# Altium integrated library NSC Voltage Reference.IntLib: 272 symbols (part 6 of 6)
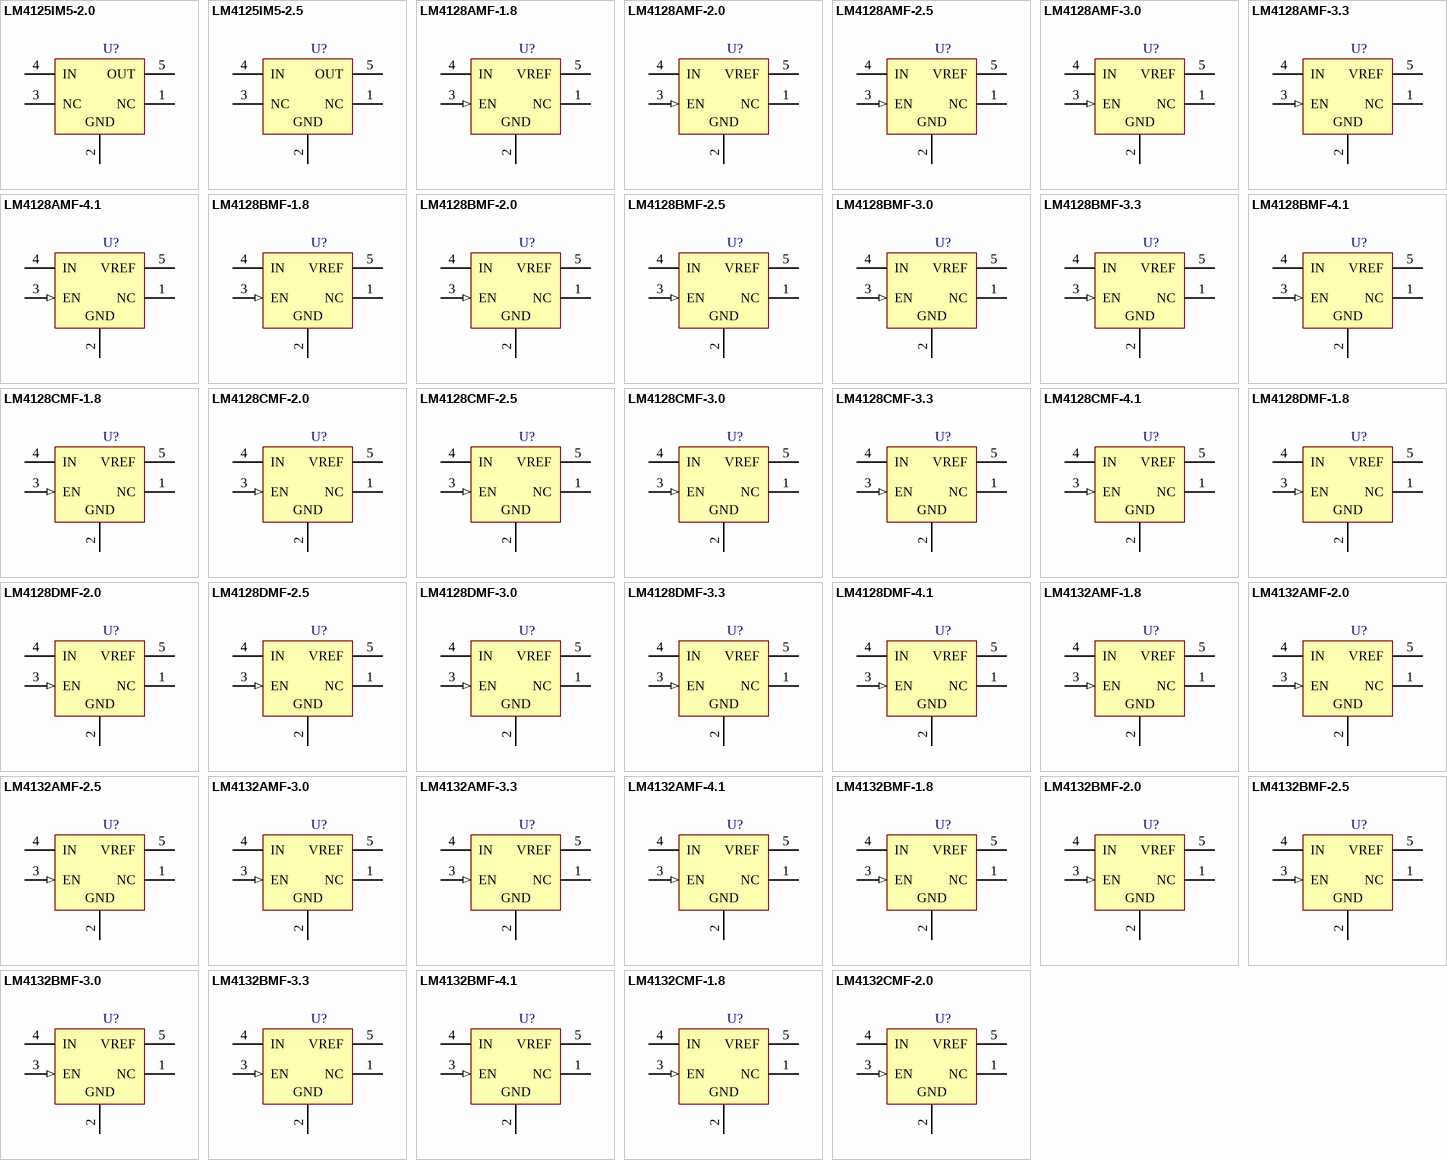
[diagram p11: symbols LM4125IM5-2.0 to LM4132CMF-2.0]

## LM4132AMF-4.1
designator U?
SOT-23 Precision Low Dropout Voltage Reference; PartNumber: LM4132AMF-4.1; Manufacturer: National Semiconductor; CompType: Voltage Reference IC; PackageTopMarking: R4FA*XTT; Published: 4-Dec-2008; DatasheetVersion: Aug-2006; PackageVersion: revD, Aug-2008; PackageReference: MF05A; Publisher: Altium Limited; PackageDescription: Molded SOT-23, .115 x .063 x .040 in Body, 5 Lead, .0375 in Pitch; RoHS: Y; PinCount: 5; DigiKeyPartNumber: LM4132AMF-4.1CT-ND; Code_IPC: SOT23-5; ComponentLink1Description: LM4132 Datasheet; ComponentLink1URL: http://www.national.com/ds/LM/LM4132.pdf; ComponentLink2Description: LM4132 Web Page; ComponentLink2URL: http://www.national.com/pf/LM/LM4132.html; ComponentLink3Description: MF05A Package Page; ComponentLink3URL: http://www.national.com/packaging/folders/mf05a.html
footprint MF05A_N (SOT23, 5-Leads, Body 2.9x1.6mm, Pitch 0.95mm, Lead Span 2.8mm, IPC Medium Density)
footprint MF05A_L (SOT23, 5-Leads, Body 2.9x1.6mm, Pitch 0.95mm, Lead Span 2.8mm, IPC High Density)
footprint MF05A_M (SOT23, 5-Leads, Body 2.9x1.6mm, Pitch 0.95mm, Lead Span 2.8mm, IPC Low Density)
pins: 1 NC, 2 GND (power), 3 EN (in), 4 IN (power), 5 VREF (power)

## LM4132BMF-1.8
designator U?
SOT-23 Precision Low Dropout Voltage Reference; PartNumber: LM4132BMF-1.8; Manufacturer: National Semiconductor; CompType: Voltage Reference IC; PackageTopMarking: R4AB*XTT; Published: 4-Dec-2008; DatasheetVersion: Aug-2006; PackageVersion: revD, Aug-2008; PackageReference: MF05A; Publisher: Altium Limited; PackageDescription: Molded SOT-23, .115 x .063 x .040 in Body, 5 Lead, .0375 in Pitch; RoHS: Y; PinCount: 5; DigiKeyPartNumber: LM4132BMF-1.8CT-ND; Code_IPC: SOT23-5; ComponentLink1Description: LM4132 Datasheet; ComponentLink1URL: http://www.national.com/ds/LM/LM4132.pdf; ComponentLink2Description: LM4132 Web Page; ComponentLink2URL: http://www.national.com/pf/LM/LM4132.html; ComponentLink3Description: MF05A Package Page; ComponentLink3URL: http://www.national.com/packaging/folders/mf05a.html
footprint MF05A_N (SOT23, 5-Leads, Body 2.9x1.6mm, Pitch 0.95mm, Lead Span 2.8mm, IPC Medium Density)
footprint MF05A_L (SOT23, 5-Leads, Body 2.9x1.6mm, Pitch 0.95mm, Lead Span 2.8mm, IPC High Density)
footprint MF05A_M (SOT23, 5-Leads, Body 2.9x1.6mm, Pitch 0.95mm, Lead Span 2.8mm, IPC Low Density)
pins: 1 NC, 2 GND (power), 3 EN (in), 4 IN (power), 5 VREF (power)

## LM4132BMF-2.0
designator U?
SOT-23 Precision Low Dropout Voltage Reference; PartNumber: LM4132BMF-2.0; Manufacturer: National Semiconductor; CompType: Voltage Reference IC; PackageTopMarking: R4BB*XTT; Published: 4-Dec-2008; DatasheetVersion: Aug-2006; PackageVersion: revD, Aug-2008; PackageReference: MF05A; Publisher: Altium Limited; PackageDescription: Molded SOT-23, .115 x .063 x .040 in Body, 5 Lead, .0375 in Pitch; RoHS: Y; PinCount: 5; DigiKeyPartNumber: LM4132BMF-2.0CT-ND; Code_IPC: SOT23-5; ComponentLink1Description: LM4132 Datasheet; ComponentLink1URL: http://www.national.com/ds/LM/LM4132.pdf; ComponentLink2Description: LM4132 Web Page; ComponentLink2URL: http://www.national.com/pf/LM/LM4132.html; ComponentLink3Description: MF05A Package Page; ComponentLink3URL: http://www.national.com/packaging/folders/mf05a.html
footprint MF05A_N (SOT23, 5-Leads, Body 2.9x1.6mm, Pitch 0.95mm, Lead Span 2.8mm, IPC Medium Density)
footprint MF05A_L (SOT23, 5-Leads, Body 2.9x1.6mm, Pitch 0.95mm, Lead Span 2.8mm, IPC High Density)
footprint MF05A_M (SOT23, 5-Leads, Body 2.9x1.6mm, Pitch 0.95mm, Lead Span 2.8mm, IPC Low Density)
pins: 1 NC, 2 GND (power), 3 EN (in), 4 IN (power), 5 VREF (power)

## LM4132BMF-2.5
designator U?
SOT-23 Precision Low Dropout Voltage Reference; PartNumber: LM4132BMF-2.5; Manufacturer: National Semiconductor; CompType: Voltage Reference IC; PackageTopMarking: R4CB*XTT; Published: 4-Dec-2008; DatasheetVersion: Aug-2006; PackageVersion: revD, Aug-2008; PackageReference: MF05A; Publisher: Altium Limited; PackageDescription: Molded SOT-23, .115 x .063 x .040 in Body, 5 Lead, .0375 in Pitch; RoHS: Y; PinCount: 5; DigiKeyPartNumber: LM4132BMF-2.5CT-ND; Code_IPC: SOT23-5; ComponentLink1Description: LM4132 Datasheet; ComponentLink1URL: http://www.national.com/ds/LM/LM4132.pdf; ComponentLink2Description: LM4132 Web Page; ComponentLink2URL: http://www.national.com/pf/LM/LM4132.html; ComponentLink3Description: MF05A Package Page; ComponentLink3URL: http://www.national.com/packaging/folders/mf05a.html
footprint MF05A_N (SOT23, 5-Leads, Body 2.9x1.6mm, Pitch 0.95mm, Lead Span 2.8mm, IPC Medium Density)
footprint MF05A_L (SOT23, 5-Leads, Body 2.9x1.6mm, Pitch 0.95mm, Lead Span 2.8mm, IPC High Density)
footprint MF05A_M (SOT23, 5-Leads, Body 2.9x1.6mm, Pitch 0.95mm, Lead Span 2.8mm, IPC Low Density)
pins: 1 NC, 2 GND (power), 3 EN (in), 4 IN (power), 5 VREF (power)

## LM4132BMF-3.0
designator U?
SOT-23 Precision Low Dropout Voltage Reference; PartNumber: LM4132BMF-3.0; Manufacturer: National Semiconductor; CompType: Voltage Reference IC; PackageTopMarking: R4DB*XTT; Published: 4-Dec-2008; DatasheetVersion: Aug-2006; PackageVersion: revD, Aug-2008; PackageReference: MF05A; Publisher: Altium Limited; PackageDescription: Molded SOT-23, .115 x .063 x .040 in Body, 5 Lead, .0375 in Pitch; RoHS: Y; PinCount: 5; DigiKeyPartNumber: LM4132BMF-3.0CT-ND; Code_IPC: SOT23-5; ComponentLink1Description: LM4132 Datasheet; ComponentLink1URL: http://www.national.com/ds/LM/LM4132.pdf; ComponentLink2Description: LM4132 Web Page; ComponentLink2URL: http://www.national.com/pf/LM/LM4132.html; ComponentLink3Description: MF05A Package Page; ComponentLink3URL: http://www.national.com/packaging/folders/mf05a.html
footprint MF05A_N (SOT23, 5-Leads, Body 2.9x1.6mm, Pitch 0.95mm, Lead Span 2.8mm, IPC Medium Density)
footprint MF05A_L (SOT23, 5-Leads, Body 2.9x1.6mm, Pitch 0.95mm, Lead Span 2.8mm, IPC High Density)
footprint MF05A_M (SOT23, 5-Leads, Body 2.9x1.6mm, Pitch 0.95mm, Lead Span 2.8mm, IPC Low Density)
pins: 1 NC, 2 GND (power), 3 EN (in), 4 IN (power), 5 VREF (power)

## LM4132BMF-3.3
designator U?
SOT-23 Precision Low Dropout Voltage Reference; PartNumber: LM4132BMF-3.3; Manufacturer: National Semiconductor; CompType: Voltage Reference IC; PackageTopMarking: R4EB*XTT; Published: 4-Dec-2008; DatasheetVersion: Aug-2006; PackageVersion: revD, Aug-2008; PackageReference: MF05A; Publisher: Altium Limited; PackageDescription: Molded SOT-23, .115 x .063 x .040 in Body, 5 Lead, .0375 in Pitch; RoHS: Y; PinCount: 5; DigiKeyPartNumber: LM4132BMF-3.3CT-ND; Code_IPC: SOT23-5; ComponentLink1Description: LM4132 Datasheet; ComponentLink1URL: http://www.national.com/ds/LM/LM4132.pdf; ComponentLink2Description: LM4132 Web Page; ComponentLink2URL: http://www.national.com/pf/LM/LM4132.html; ComponentLink3Description: MF05A Package Page; ComponentLink3URL: http://www.national.com/packaging/folders/mf05a.html
footprint MF05A_N (SOT23, 5-Leads, Body 2.9x1.6mm, Pitch 0.95mm, Lead Span 2.8mm, IPC Medium Density)
footprint MF05A_L (SOT23, 5-Leads, Body 2.9x1.6mm, Pitch 0.95mm, Lead Span 2.8mm, IPC High Density)
footprint MF05A_M (SOT23, 5-Leads, Body 2.9x1.6mm, Pitch 0.95mm, Lead Span 2.8mm, IPC Low Density)
pins: 1 NC, 2 GND (power), 3 EN (in), 4 IN (power), 5 VREF (power)

## LM4132BMF-4.1
designator U?
SOT-23 Precision Low Dropout Voltage Reference; PartNumber: LM4132BMF-4.1; Manufacturer: National Semiconductor; CompType: Voltage Reference IC; PackageTopMarking: R4FB*XTT; Published: 4-Dec-2008; DatasheetVersion: Aug-2006; PackageVersion: revD, Aug-2008; PackageReference: MF05A; Publisher: Altium Limited; PackageDescription: Molded SOT-23, .115 x .063 x .040 in Body, 5 Lead, .0375 in Pitch; RoHS: Y; PinCount: 5; DigiKeyPartNumber: LM4132BMF-4.1CT-ND; Code_IPC: SOT23-5; ComponentLink1Description: LM4132 Datasheet; ComponentLink1URL: http://www.national.com/ds/LM/LM4132.pdf; ComponentLink2Description: LM4132 Web Page; ComponentLink2URL: http://www.national.com/pf/LM/LM4132.html; ComponentLink3Description: MF05A Package Page; ComponentLink3URL: http://www.national.com/packaging/folders/mf05a.html
footprint MF05A_N (SOT23, 5-Leads, Body 2.9x1.6mm, Pitch 0.95mm, Lead Span 2.8mm, IPC Medium Density)
footprint MF05A_L (SOT23, 5-Leads, Body 2.9x1.6mm, Pitch 0.95mm, Lead Span 2.8mm, IPC High Density)
footprint MF05A_M (SOT23, 5-Leads, Body 2.9x1.6mm, Pitch 0.95mm, Lead Span 2.8mm, IPC Low Density)
pins: 1 NC, 2 GND (power), 3 EN (in), 4 IN (power), 5 VREF (power)

## LM4132CMF-1.8
designator U?
SOT-23 Precision Low Dropout Voltage Reference; PartNumber: LM4132CMF-1.8; Manufacturer: National Semiconductor; CompType: Voltage Reference IC; PackageTopMarking: R4AC*XTT; Published: 4-Dec-2008; DatasheetVersion: Aug-2006; PackageVersion: revD, Aug-2008; PackageReference: MF05A; Publisher: Altium Limited; PackageDescription: Molded SOT-23, .115 x .063 x .040 in Body, 5 Lead, .0375 in Pitch; RoHS: Y; PinCount: 5; DigiKeyPartNumber: LM4132CMF-1.8CT-ND; Code_IPC: SOT23-5; ComponentLink1Description: LM4132 Datasheet; ComponentLink1URL: http://www.national.com/ds/LM/LM4132.pdf; ComponentLink2Description: LM4132 Web Page; ComponentLink2URL: http://www.national.com/pf/LM/LM4132.html; ComponentLink3Description: MF05A Package Page; ComponentLink3URL: http://www.national.com/packaging/folders/mf05a.html
footprint MF05A_N (SOT23, 5-Leads, Body 2.9x1.6mm, Pitch 0.95mm, Lead Span 2.8mm, IPC Medium Density)
footprint MF05A_L (SOT23, 5-Leads, Body 2.9x1.6mm, Pitch 0.95mm, Lead Span 2.8mm, IPC High Density)
footprint MF05A_M (SOT23, 5-Leads, Body 2.9x1.6mm, Pitch 0.95mm, Lead Span 2.8mm, IPC Low Density)
pins: 1 NC, 2 GND (power), 3 EN (in), 4 IN (power), 5 VREF (power)

## LM4132CMF-2.0
designator U?
SOT-23 Precision Low Dropout Voltage Reference; PartNumber: LM4132CMF-2.0; Manufacturer: National Semiconductor; CompType: Voltage Reference IC; PackageTopMarking: R4BC*XTT; Published: 4-Dec-2008; DatasheetVersion: Aug-2006; PackageVersion: revD, Aug-2008; PackageReference: MF05A; Publisher: Altium Limited; PackageDescription: Molded SOT-23, .115 x .063 x .040 in Body, 5 Lead, .0375 in Pitch; RoHS: Y; PinCount: 5; DigiKeyPartNumber: LM4132CMF-2.0CT-ND; Code_IPC: SOT23-5; ComponentLink1Description: LM4132 Datasheet; ComponentLink1URL: http://www.national.com/ds/LM/LM4132.pdf; ComponentLink2Description: LM4132 Web Page; ComponentLink2URL: http://www.national.com/pf/LM/LM4132.html; ComponentLink3Description: MF05A Package Page; ComponentLink3URL: http://www.national.com/packaging/folders/mf05a.html
footprint MF05A_N (SOT23, 5-Leads, Body 2.9x1.6mm, Pitch 0.95mm, Lead Span 2.8mm, IPC Medium Density)
footprint MF05A_L (SOT23, 5-Leads, Body 2.9x1.6mm, Pitch 0.95mm, Lead Span 2.8mm, IPC High Density)
footprint MF05A_M (SOT23, 5-Leads, Body 2.9x1.6mm, Pitch 0.95mm, Lead Span 2.8mm, IPC Low Density)
pins: 1 NC, 2 GND (power), 3 EN (in), 4 IN (power), 5 VREF (power)

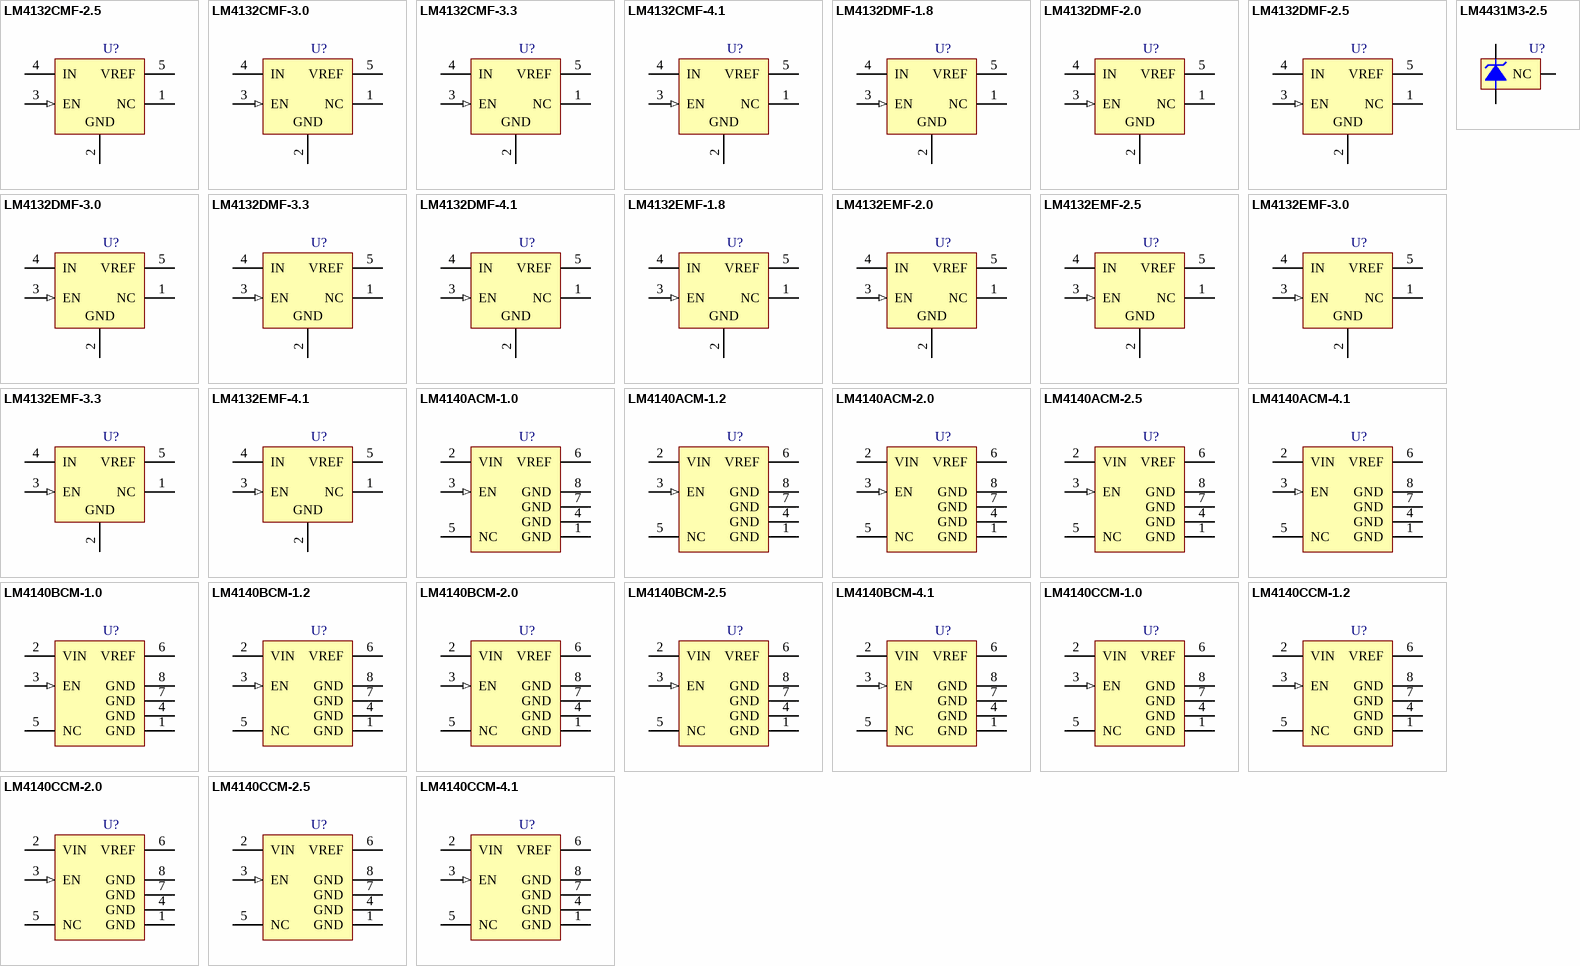
[diagram p6: symbols LM4132CMF-2.5 to LM4431M3-2.5]

## LM4132CMF-2.5
designator U?
SOT-23 Precision Low Dropout Voltage Reference; PartNumber: LM4132CMF-2.5; Manufacturer: National Semiconductor; CompType: Voltage Reference IC; PackageTopMarking: R4CC*XTT; Published: 4-Dec-2008; DatasheetVersion: Aug-2006; PackageVersion: revD, Aug-2008; PackageReference: MF05A; Publisher: Altium Limited; PackageDescription: Molded SOT-23, .115 x .063 x .040 in Body, 5 Lead, .0375 in Pitch; RoHS: Y; PinCount: 5; DigiKeyPartNumber: LM4132CMF-2.5CT-ND; Code_IPC: SOT23-5; ComponentLink1Description: LM4132 Datasheet; ComponentLink1URL: http://www.national.com/ds/LM/LM4132.pdf; ComponentLink2Description: LM4132 Web Page; ComponentLink2URL: http://www.national.com/pf/LM/LM4132.html; ComponentLink3Description: MF05A Package Page; ComponentLink3URL: http://www.national.com/packaging/folders/mf05a.html
footprint MF05A_N (SOT23, 5-Leads, Body 2.9x1.6mm, Pitch 0.95mm, Lead Span 2.8mm, IPC Medium Density)
footprint MF05A_L (SOT23, 5-Leads, Body 2.9x1.6mm, Pitch 0.95mm, Lead Span 2.8mm, IPC High Density)
footprint MF05A_M (SOT23, 5-Leads, Body 2.9x1.6mm, Pitch 0.95mm, Lead Span 2.8mm, IPC Low Density)
pins: 1 NC, 2 GND (power), 3 EN (in), 4 IN (power), 5 VREF (power)

## LM4132CMF-3.0
designator U?
SOT-23 Precision Low Dropout Voltage Reference; PartNumber: LM4132CMF-3.0; Manufacturer: National Semiconductor; CompType: Voltage Reference IC; PackageTopMarking: R4DC*XTT; Published: 4-Dec-2008; DatasheetVersion: Aug-2006; PackageVersion: revD, Aug-2008; PackageReference: MF05A; Publisher: Altium Limited; PackageDescription: Molded SOT-23, .115 x .063 x .040 in Body, 5 Lead, .0375 in Pitch; RoHS: Y; PinCount: 5; DigiKeyPartNumber: LM4132CMF-3.0CT-ND; Code_IPC: SOT23-5; ComponentLink1Description: LM4132 Datasheet; ComponentLink1URL: http://www.national.com/ds/LM/LM4132.pdf; ComponentLink2Description: LM4132 Web Page; ComponentLink2URL: http://www.national.com/pf/LM/LM4132.html; ComponentLink3Description: MF05A Package Page; ComponentLink3URL: http://www.national.com/packaging/folders/mf05a.html
footprint MF05A_N (SOT23, 5-Leads, Body 2.9x1.6mm, Pitch 0.95mm, Lead Span 2.8mm, IPC Medium Density)
footprint MF05A_L (SOT23, 5-Leads, Body 2.9x1.6mm, Pitch 0.95mm, Lead Span 2.8mm, IPC High Density)
footprint MF05A_M (SOT23, 5-Leads, Body 2.9x1.6mm, Pitch 0.95mm, Lead Span 2.8mm, IPC Low Density)
pins: 1 NC, 2 GND (power), 3 EN (in), 4 IN (power), 5 VREF (power)

## LM4132CMF-3.3
designator U?
SOT-23 Precision Low Dropout Voltage Reference; PartNumber: LM4132CMF-3.3; Manufacturer: National Semiconductor; CompType: Voltage Reference IC; PackageTopMarking: R4EC*XTT; Published: 4-Dec-2008; DatasheetVersion: Aug-2006; PackageVersion: revD, Aug-2008; PackageReference: MF05A; Publisher: Altium Limited; PackageDescription: Molded SOT-23, .115 x .063 x .040 in Body, 5 Lead, .0375 in Pitch; RoHS: Y; PinCount: 5; DigiKeyPartNumber: LM4132CMF-3.3CT-ND; Code_IPC: SOT23-5; ComponentLink1Description: LM4132 Datasheet; ComponentLink1URL: http://www.national.com/ds/LM/LM4132.pdf; ComponentLink2Description: LM4132 Web Page; ComponentLink2URL: http://www.national.com/pf/LM/LM4132.html; ComponentLink3Description: MF05A Package Page; ComponentLink3URL: http://www.national.com/packaging/folders/mf05a.html
footprint MF05A_N (SOT23, 5-Leads, Body 2.9x1.6mm, Pitch 0.95mm, Lead Span 2.8mm, IPC Medium Density)
footprint MF05A_L (SOT23, 5-Leads, Body 2.9x1.6mm, Pitch 0.95mm, Lead Span 2.8mm, IPC High Density)
footprint MF05A_M (SOT23, 5-Leads, Body 2.9x1.6mm, Pitch 0.95mm, Lead Span 2.8mm, IPC Low Density)
pins: 1 NC, 2 GND (power), 3 EN (in), 4 IN (power), 5 VREF (power)

## LM4132CMF-4.1
designator U?
SOT-23 Precision Low Dropout Voltage Reference; PartNumber: LM4132CMF-4.1; Manufacturer: National Semiconductor; CompType: Voltage Reference IC; PackageTopMarking: R4FC*XTT; Published: 4-Dec-2008; DatasheetVersion: Aug-2006; PackageVersion: revD, Aug-2008; PackageReference: MF05A; Publisher: Altium Limited; PackageDescription: Molded SOT-23, .115 x .063 x .040 in Body, 5 Lead, .0375 in Pitch; RoHS: O; PinCount: 5; DigiKeyPartNumber: LM4132CMF-4.1CT-ND; Code_IPC: SOT23-5; ComponentLink1Description: LM4132 Datasheet; ComponentLink1URL: http://www.national.com/ds/LM/LM4132.pdf; ComponentLink2Description: LM4132 Web Page; ComponentLink2URL: http://www.national.com/pf/LM/LM4132.html; ComponentLink3Description: MF05A Package Page; ComponentLink3URL: http://www.national.com/packaging/folders/mf05a.html
footprint MF05A_N (SOT23, 5-Leads, Body 2.9x1.6mm, Pitch 0.95mm, Lead Span 2.8mm, IPC Medium Density)
footprint MF05A_L (SOT23, 5-Leads, Body 2.9x1.6mm, Pitch 0.95mm, Lead Span 2.8mm, IPC High Density)
footprint MF05A_M (SOT23, 5-Leads, Body 2.9x1.6mm, Pitch 0.95mm, Lead Span 2.8mm, IPC Low Density)
pins: 1 NC, 2 GND (power), 3 EN (in), 4 IN (power), 5 VREF (power)

## LM4132DMF-1.8
designator U?
SOT-23 Precision Low Dropout Voltage Reference; PartNumber: LM4132DMF-1.8; Manufacturer: National Semiconductor; CompType: Voltage Reference IC; PackageTopMarking: R4AD*XTT; Published: 4-Dec-2008; DatasheetVersion: Aug-2006; PackageVersion: revD, Aug-2008; PackageReference: MF05A; Publisher: Altium Limited; PackageDescription: Molded SOT-23, .115 x .063 x .040 in Body, 5 Lead, .0375 in Pitch; RoHS: Y; PinCount: 5; DigiKeyPartNumber: LM4132DMF-1.8CT-ND; Code_IPC: SOT23-5; ComponentLink1Description: LM4132 Datasheet; ComponentLink1URL: http://www.national.com/ds/LM/LM4132.pdf; ComponentLink2Description: LM4132 Web Page; ComponentLink2URL: http://www.national.com/pf/LM/LM4132.html; ComponentLink3Description: MF05A Package Page; ComponentLink3URL: http://www.national.com/packaging/folders/mf05a.html
footprint MF05A_N (SOT23, 5-Leads, Body 2.9x1.6mm, Pitch 0.95mm, Lead Span 2.8mm, IPC Medium Density)
footprint MF05A_L (SOT23, 5-Leads, Body 2.9x1.6mm, Pitch 0.95mm, Lead Span 2.8mm, IPC High Density)
footprint MF05A_M (SOT23, 5-Leads, Body 2.9x1.6mm, Pitch 0.95mm, Lead Span 2.8mm, IPC Low Density)
pins: 1 NC, 2 GND (power), 3 EN (in), 4 IN (power), 5 VREF (power)

## LM4132DMF-2.0
designator U?
SOT-23 Precision Low Dropout Voltage Reference; PartNumber: LM4132DMF-2.0; Manufacturer: National Semiconductor; CompType: Voltage Reference IC; PackageTopMarking: R4BD*XTT; Published: 4-Dec-2008; DatasheetVersion: Aug-2006; PackageVersion: revD, Aug-2008; PackageReference: MF05A; Publisher: Altium Limited; PackageDescription: Molded SOT-23, .115 x .063 x .040 in Body, 5 Lead, .0375 in Pitch; RoHS: Y; PinCount: 5; DigiKeyPartNumber: LM4132DMF-2.0CT-ND; Code_IPC: SOT23-5; ComponentLink1Description: LM4132 Datasheet; ComponentLink1URL: http://www.national.com/ds/LM/LM4132.pdf; ComponentLink2Description: LM4132 Web Page; ComponentLink2URL: http://www.national.com/pf/LM/LM4132.html; ComponentLink3Description: MF05A Package Page; ComponentLink3URL: http://www.national.com/packaging/folders/mf05a.html
footprint MF05A_N (SOT23, 5-Leads, Body 2.9x1.6mm, Pitch 0.95mm, Lead Span 2.8mm, IPC Medium Density)
footprint MF05A_L (SOT23, 5-Leads, Body 2.9x1.6mm, Pitch 0.95mm, Lead Span 2.8mm, IPC High Density)
footprint MF05A_M (SOT23, 5-Leads, Body 2.9x1.6mm, Pitch 0.95mm, Lead Span 2.8mm, IPC Low Density)
pins: 1 NC, 2 GND (power), 3 EN (in), 4 IN (power), 5 VREF (power)

## LM4132DMF-2.5
designator U?
SOT-23 Precision Low Dropout Voltage Reference; PartNumber: LM4132DMF-2.5; Manufacturer: National Semiconductor; CompType: Voltage Reference IC; PackageTopMarking: R4CD*XTT; Published: 4-Dec-2008; DatasheetVersion: Aug-2006; PackageVersion: revD, Aug-2008; PackageReference: MF05A; Publisher: Altium Limited; PackageDescription: Molded SOT-23, .115 x .063 x .040 in Body, 5 Lead, .0375 in Pitch; RoHS: Y; PinCount: 5; DigiKeyPartNumber: LM4132DMF-2.5CT-ND; Code_IPC: SOT23-5; ComponentLink1Description: LM4132 Datasheet; ComponentLink1URL: http://www.national.com/ds/LM/LM4132.pdf; ComponentLink2Description: LM4132 Web Page; ComponentLink2URL: http://www.national.com/pf/LM/LM4132.html; ComponentLink3Description: MF05A Package Page; ComponentLink3URL: http://www.national.com/packaging/folders/mf05a.html
footprint MF05A_N (SOT23, 5-Leads, Body 2.9x1.6mm, Pitch 0.95mm, Lead Span 2.8mm, IPC Medium Density)
footprint MF05A_L (SOT23, 5-Leads, Body 2.9x1.6mm, Pitch 0.95mm, Lead Span 2.8mm, IPC High Density)
footprint MF05A_M (SOT23, 5-Leads, Body 2.9x1.6mm, Pitch 0.95mm, Lead Span 2.8mm, IPC Low Density)
pins: 1 NC, 2 GND (power), 3 EN (in), 4 IN (power), 5 VREF (power)

## LM4132DMF-3.0
designator U?
SOT-23 Precision Low Dropout Voltage Reference; PartNumber: LM4132DMF-3.0; Manufacturer: National Semiconductor; CompType: Voltage Reference IC; PackageTopMarking: R4DD*XTT; Published: 4-Dec-2008; DatasheetVersion: Aug-2006; PackageVersion: revD, Aug-2008; PackageReference: MF05A; Publisher: Altium Limited; PackageDescription: Molded SOT-23, .115 x .063 x .040 in Body, 5 Lead, .0375 in Pitch; RoHS: Y; PinCount: 5; DigiKeyPartNumber: LM4132DMF-3.0CT-ND; Code_IPC: SOT23-5; ComponentLink1Description: LM4132 Datasheet; ComponentLink1URL: http://www.national.com/ds/LM/LM4132.pdf; ComponentLink2Description: LM4132 Web Page; ComponentLink2URL: http://www.national.com/pf/LM/LM4132.html; ComponentLink3Description: MF05A Package Page; ComponentLink3URL: http://www.national.com/packaging/folders/mf05a.html
footprint MF05A_N (SOT23, 5-Leads, Body 2.9x1.6mm, Pitch 0.95mm, Lead Span 2.8mm, IPC Medium Density)
footprint MF05A_L (SOT23, 5-Leads, Body 2.9x1.6mm, Pitch 0.95mm, Lead Span 2.8mm, IPC High Density)
footprint MF05A_M (SOT23, 5-Leads, Body 2.9x1.6mm, Pitch 0.95mm, Lead Span 2.8mm, IPC Low Density)
pins: 1 NC, 2 GND (power), 3 EN (in), 4 IN (power), 5 VREF (power)

## LM4132DMF-3.3
designator U?
SOT-23 Precision Low Dropout Voltage Reference; PartNumber: LM4132DMF-3.3; Manufacturer: National Semiconductor; CompType: Voltage Reference IC; PackageTopMarking: R4ED*XTT; Published: 4-Dec-2008; DatasheetVersion: Aug-2006; PackageVersion: revD, Aug-2008; PackageReference: MF05A; Publisher: Altium Limited; PackageDescription: Molded SOT-23, .115 x .063 x .040 in Body, 5 Lead, .0375 in Pitch; RoHS: Y; PinCount: 5; DigiKeyPartNumber: LM4132DMF-3.3CT-ND; Code_IPC: SOT23-5; ComponentLink1Description: LM4132 Datasheet; ComponentLink1URL: http://www.national.com/ds/LM/LM4132.pdf; ComponentLink2Description: LM4132 Web Page; ComponentLink2URL: http://www.national.com/pf/LM/LM4132.html; ComponentLink3Description: MF05A Package Page; ComponentLink3URL: http://www.national.com/packaging/folders/mf05a.html
footprint MF05A_N (SOT23, 5-Leads, Body 2.9x1.6mm, Pitch 0.95mm, Lead Span 2.8mm, IPC Medium Density)
footprint MF05A_L (SOT23, 5-Leads, Body 2.9x1.6mm, Pitch 0.95mm, Lead Span 2.8mm, IPC High Density)
footprint MF05A_M (SOT23, 5-Leads, Body 2.9x1.6mm, Pitch 0.95mm, Lead Span 2.8mm, IPC Low Density)
pins: 1 NC, 2 GND (power), 3 EN (in), 4 IN (power), 5 VREF (power)

## LM4132DMF-4.1
designator U?
SOT-23 Precision Low Dropout Voltage Reference; PartNumber: LM4132DMF-4.1; Manufacturer: National Semiconductor; CompType: Voltage Reference IC; PackageTopMarking: R4FD*XTT; Published: 4-Dec-2008; DatasheetVersion: Aug-2006; PackageVersion: revD, Aug-2008; PackageReference: MF05A; Publisher: Altium Limited; PackageDescription: Molded SOT-23, .115 x .063 x .040 in Body, 5 Lead, .0375 in Pitch; RoHS: Y; PinCount: 5; DigiKeyPartNumber: LM4132DMF-4.1CT-ND; Code_IPC: SOT23-5; ComponentLink1Description: LM4132 Datasheet; ComponentLink1URL: http://www.national.com/ds/LM/LM4132.pdf; ComponentLink2Description: LM4132 Web Page; ComponentLink2URL: http://www.national.com/pf/LM/LM4132.html; ComponentLink3Description: MF05A Package Page; ComponentLink3URL: http://www.national.com/packaging/folders/mf05a.html
footprint MF05A_N (SOT23, 5-Leads, Body 2.9x1.6mm, Pitch 0.95mm, Lead Span 2.8mm, IPC Medium Density)
footprint MF05A_L (SOT23, 5-Leads, Body 2.9x1.6mm, Pitch 0.95mm, Lead Span 2.8mm, IPC High Density)
footprint MF05A_M (SOT23, 5-Leads, Body 2.9x1.6mm, Pitch 0.95mm, Lead Span 2.8mm, IPC Low Density)
pins: 1 NC, 2 GND (power), 3 EN (in), 4 IN (power), 5 VREF (power)

## LM4132EMF-1.8
designator U?
SOT-23 Precision Low Dropout Voltage Reference; PartNumber: LM4132EMF-1.8; Manufacturer: National Semiconductor; CompType: Voltage Reference IC; PackageTopMarking: R4AE*XTT; Published: 4-Dec-2008; DatasheetVersion: Aug-2006; PackageVersion: revD, Aug-2008; PackageReference: MF05A; Publisher: Altium Limited; PackageDescription: Molded SOT-23, .115 x .063 x .040 in Body, 5 Lead, .0375 in Pitch; RoHS: Y; PinCount: 5; DigiKeyPartNumber: LM4132EMF-1.8CT-ND; Code_IPC: SOT23-5; ComponentLink1Description: LM4132 Datasheet; ComponentLink1URL: http://www.national.com/ds/LM/LM4132.pdf; ComponentLink2Description: LM4132 Web Page; ComponentLink2URL: http://www.national.com/pf/LM/LM4132.html; ComponentLink3Description: MF05A Package Page; ComponentLink3URL: http://www.national.com/packaging/folders/mf05a.html
footprint MF05A_N (SOT23, 5-Leads, Body 2.9x1.6mm, Pitch 0.95mm, Lead Span 2.8mm, IPC Medium Density)
footprint MF05A_L (SOT23, 5-Leads, Body 2.9x1.6mm, Pitch 0.95mm, Lead Span 2.8mm, IPC High Density)
footprint MF05A_M (SOT23, 5-Leads, Body 2.9x1.6mm, Pitch 0.95mm, Lead Span 2.8mm, IPC Low Density)
pins: 1 NC, 2 GND (power), 3 EN (in), 4 IN (power), 5 VREF (power)

## LM4132EMF-2.0
designator U?
SOT-23 Precision Low Dropout Voltage Reference; PartNumber: LM4132EMF-2.0; Manufacturer: National Semiconductor; CompType: Voltage Reference IC; PackageTopMarking: R4BE*XTT; Published: 4-Dec-2008; DatasheetVersion: Aug-2006; PackageVersion: revD, Aug-2008; PackageReference: MF05A; Publisher: Altium Limited; PackageDescription: Molded SOT-23, .115 x .063 x .040 in Body, 5 Lead, .0375 in Pitch; RoHS: Y; PinCount: 5; DigiKeyPartNumber: LM4132EMF-2.0CT-ND; Code_IPC: SOT23-5; ComponentLink1Description: LM4132 Datasheet; ComponentLink1URL: http://www.national.com/ds/LM/LM4132.pdf; ComponentLink2Description: LM4132 Web Page; ComponentLink2URL: http://www.national.com/pf/LM/LM4132.html; ComponentLink3Description: MF05A Package Page; ComponentLink3URL: http://www.national.com/packaging/folders/mf05a.html
footprint MF05A_N (SOT23, 5-Leads, Body 2.9x1.6mm, Pitch 0.95mm, Lead Span 2.8mm, IPC Medium Density)
footprint MF05A_L (SOT23, 5-Leads, Body 2.9x1.6mm, Pitch 0.95mm, Lead Span 2.8mm, IPC High Density)
footprint MF05A_M (SOT23, 5-Leads, Body 2.9x1.6mm, Pitch 0.95mm, Lead Span 2.8mm, IPC Low Density)
pins: 1 NC, 2 GND (power), 3 EN (in), 4 IN (power), 5 VREF (power)

## LM4132EMF-2.5
designator U?
SOT-23 Precision Low Dropout Voltage Reference; PartNumber: LM4132EMF-2.5; Manufacturer: National Semiconductor; CompType: Voltage Reference IC; PackageTopMarking: R4CE*XTT; Published: 4-Dec-2008; DatasheetVersion: Aug-2006; PackageVersion: revD, Aug-2008; PackageReference: MF05A; Publisher: Altium Limited; PackageDescription: Molded SOT-23, .115 x .063 x .040 in Body, 5 Lead, .0375 in Pitch; RoHS: Y; PinCount: 5; DigiKeyPartNumber: LM4132EMF-2.5CT-ND; Code_IPC: SOT23-5; ComponentLink1Description: LM4132 Datasheet; ComponentLink1URL: http://www.national.com/ds/LM/LM4132.pdf; ComponentLink2Description: LM4132 Web Page; ComponentLink2URL: http://www.national.com/pf/LM/LM4132.html; ComponentLink3Description: MF05A Package Page; ComponentLink3URL: http://www.national.com/packaging/folders/mf05a.html
footprint MF05A_N (SOT23, 5-Leads, Body 2.9x1.6mm, Pitch 0.95mm, Lead Span 2.8mm, IPC Medium Density)
footprint MF05A_L (SOT23, 5-Leads, Body 2.9x1.6mm, Pitch 0.95mm, Lead Span 2.8mm, IPC High Density)
footprint MF05A_M (SOT23, 5-Leads, Body 2.9x1.6mm, Pitch 0.95mm, Lead Span 2.8mm, IPC Low Density)
pins: 1 NC, 2 GND (power), 3 EN (in), 4 IN (power), 5 VREF (power)

## LM4132EMF-3.0
designator U?
SOT-23 Precision Low Dropout Voltage Reference; PartNumber: LM4132EMF-3.0; Manufacturer: National Semiconductor; CompType: Voltage Reference IC; PackageTopMarking: R4DE*XTT; Published: 4-Dec-2008; DatasheetVersion: Aug-2006; PackageVersion: revD, Aug-2008; PackageReference: MF05A; Publisher: Altium Limited; PackageDescription: Molded SOT-23, .115 x .063 x .040 in Body, 5 Lead, .0375 in Pitch; RoHS: Y; PinCount: 5; DigiKeyPartNumber: LM4132EMF-3.0CT-ND; Code_IPC: SOT23-5; ComponentLink1Description: LM4132 Datasheet; ComponentLink1URL: http://www.national.com/ds/LM/LM4132.pdf; ComponentLink2Description: LM4132 Web Page; ComponentLink2URL: http://www.national.com/pf/LM/LM4132.html; ComponentLink3Description: MF05A Package Page; ComponentLink3URL: http://www.national.com/packaging/folders/mf05a.html
footprint MF05A_N (SOT23, 5-Leads, Body 2.9x1.6mm, Pitch 0.95mm, Lead Span 2.8mm, IPC Medium Density)
footprint MF05A_L (SOT23, 5-Leads, Body 2.9x1.6mm, Pitch 0.95mm, Lead Span 2.8mm, IPC High Density)
footprint MF05A_M (SOT23, 5-Leads, Body 2.9x1.6mm, Pitch 0.95mm, Lead Span 2.8mm, IPC Low Density)
pins: 1 NC, 2 GND (power), 3 EN (in), 4 IN (power), 5 VREF (power)

## LM4132EMF-3.3
designator U?
SOT-23 Precision Low Dropout Voltage Reference; PartNumber: LM4132EMF-3.3; Manufacturer: National Semiconductor; CompType: Voltage Reference IC; PackageTopMarking: R4EE*XTT; Published: 4-Dec-2008; DatasheetVersion: Aug-2006; PackageVersion: revD, Aug-2008; PackageReference: MF05A; Publisher: Altium Limited; PackageDescription: Molded SOT-23, .115 x .063 x .040 in Body, 5 Lead, .0375 in Pitch; RoHS: Y; PinCount: 5; DigiKeyPartNumber: LM4132EMF-3.3CT-ND; Code_IPC: SOT23-5; ComponentLink1Description: LM4132 Datasheet; ComponentLink1URL: http://www.national.com/ds/LM/LM4132.pdf; ComponentLink2Description: LM4132 Web Page; ComponentLink2URL: http://www.national.com/pf/LM/LM4132.html; ComponentLink3Description: MF05A Package Page; ComponentLink3URL: http://www.national.com/packaging/folders/mf05a.html
footprint MF05A_N (SOT23, 5-Leads, Body 2.9x1.6mm, Pitch 0.95mm, Lead Span 2.8mm, IPC Medium Density)
footprint MF05A_L (SOT23, 5-Leads, Body 2.9x1.6mm, Pitch 0.95mm, Lead Span 2.8mm, IPC High Density)
footprint MF05A_M (SOT23, 5-Leads, Body 2.9x1.6mm, Pitch 0.95mm, Lead Span 2.8mm, IPC Low Density)
pins: 1 NC, 2 GND (power), 3 EN (in), 4 IN (power), 5 VREF (power)

## LM4132EMF-4.1
designator U?
SOT-23 Precision Low Dropout Voltage Reference; PartNumber: LM4132EMF-4.1; Manufacturer: National Semiconductor; CompType: Voltage Reference IC; PackageTopMarking: R4FE*XTT; Published: 4-Dec-2008; DatasheetVersion: Aug-2006; PackageVersion: revD, Aug-2008; PackageReference: MF05A; Publisher: Altium Limited; PackageDescription: Molded SOT-23, .115 x .063 x .040 in Body, 5 Lead, .0375 in Pitch; RoHS: Y; PinCount: 5; DigiKeyPartNumber: LM4132EMF-4.1CT-ND; Code_IPC: SOT23-5; ComponentLink1Description: LM4132 Datasheet; ComponentLink1URL: http://www.national.com/ds/LM/LM4132.pdf; ComponentLink2Description: LM4132 Web Page; ComponentLink2URL: http://www.national.com/pf/LM/LM4132.html; ComponentLink3Description: MF05A Package Page; ComponentLink3URL: http://www.national.com/packaging/folders/mf05a.html
footprint MF05A_N (SOT23, 5-Leads, Body 2.9x1.6mm, Pitch 0.95mm, Lead Span 2.8mm, IPC Medium Density)
footprint MF05A_L (SOT23, 5-Leads, Body 2.9x1.6mm, Pitch 0.95mm, Lead Span 2.8mm, IPC High Density)
footprint MF05A_M (SOT23, 5-Leads, Body 2.9x1.6mm, Pitch 0.95mm, Lead Span 2.8mm, IPC Low Density)
pins: 1 NC, 2 GND (power), 3 EN (in), 4 IN (power), 5 VREF (power)

## LM4140ACM-1.0
designator U?
Precision Micropower Low Dropout Voltage Reference; PartNumber: LM4140ACM-1.0; Manufacturer: National Semiconductor; CompType: Voltage Reference IC; PackageTopMarking: NSZXTT*4140A*CM1.0; Published: 4-Dec-2008; DatasheetVersion: Feb-2005; PackageVersion: revL, Sep-2006; PackageReference: M08A; Publisher: Altium Limited; PackageDescription: SOIC Narrow, 4.9 x 3.9 x 1.45mm, 8 Lead, 1.27mm Pitch; RoHS: O; PinCount: 8; DigiKeyPartNumber: LM4140ACM-1.0-ND; Code_JEDEC: MS-012-AA; Code_IPC: SOIC127P600-8; ComponentLink1Description: LM4140 Datasheet; ComponentLink1URL: http://www.national.com/ds/LM/LM4140.pdf; ComponentLink2Description: LM4140 Web Page; ComponentLink2URL: http://www.national.com/pf/LM/LM4140.html; ComponentLink3Description: M08A Package Page; ComponentLink3URL: http://www.national.com/packaging/folders/m08a.html
footprint M08A_N (SOIC, 8-Leads, Body 4.9x3.9mm, Pitch 1.27mm, IPC Medium Density)
footprint M08A_L (SOIC, 8-Leads, Body 4.9x3.9mm, Pitch 1.27mm, IPC High Density)
footprint M08A_M (SOIC, 8-Leads, Body 4.9x3.9mm, Pitch 1.27mm, IPC Low Density)
pins: 1 GND (power), 2 VIN (power), 3 EN (in), 4 GND (power), 5 NC, 6 VREF (power), 7 GND (power), 8 GND (power)

## LM4140ACM-1.2
designator U?
Precision Micropower Low Dropout Voltage Reference; PartNumber: LM4140ACM-1.2; Manufacturer: National Semiconductor; CompType: Voltage Reference IC; PackageTopMarking: NSZXTT*4140A*CM1.2; Published: 4-Dec-2008; DatasheetVersion: Feb-2005; PackageVersion: revL, Sep-2006; PackageReference: M08A; Publisher: Altium Limited; PackageDescription: SOIC Narrow, 4.9 x 3.9 x 1.45mm, 8 Lead, 1.27mm Pitch; RoHS: Y; PinCount: 8; DigiKeyPartNumber: LM4140ACM-1.2-ND; Code_JEDEC: MS-012-AA; Code_IPC: SOIC127P600-8; ComponentLink1Description: LM4140 Datasheet; ComponentLink1URL: http://www.national.com/ds/LM/LM4140.pdf; ComponentLink2Description: LM4140 Web Page; ComponentLink2URL: http://www.national.com/pf/LM/LM4140.html; ComponentLink3Description: M08A Package Page; ComponentLink3URL: http://www.national.com/packaging/folders/m08a.html
footprint M08A_N (SOIC, 8-Leads, Body 4.9x3.9mm, Pitch 1.27mm, IPC Medium Density)
footprint M08A_L (SOIC, 8-Leads, Body 4.9x3.9mm, Pitch 1.27mm, IPC High Density)
footprint M08A_M (SOIC, 8-Leads, Body 4.9x3.9mm, Pitch 1.27mm, IPC Low Density)
pins: 1 GND (power), 2 VIN (power), 3 EN (in), 4 GND (power), 5 NC, 6 VREF (power), 7 GND (power), 8 GND (power)

## LM4140ACM-2.0
designator U?
Precision Micropower Low Dropout Voltage Reference; PartNumber: LM4140ACM-2.0; Manufacturer: National Semiconductor; CompType: Voltage Reference IC; PackageTopMarking: NSZXTT*4140A*CM2.0; Published: 4-Dec-2008; DatasheetVersion: Feb-2005; PackageVersion: revL, Sep-2006; PackageReference: M08A; Publisher: Altium Limited; PackageDescription: SOIC Narrow, 4.9 x 3.9 x 1.45mm, 8 Lead, 1.27mm Pitch; RoHS: O; PinCount: 8; DigiKeyPartNumber: LM4140ACM-2.0-ND; Code_JEDEC: MS-012-AA; Code_IPC: SOIC127P600-8; ComponentLink1Description: LM4140 Datasheet; ComponentLink1URL: http://www.national.com/ds/LM/LM4140.pdf; ComponentLink2Description: LM4140 Web Page; ComponentLink2URL: http://www.national.com/pf/LM/LM4140.html; ComponentLink3Description: M08A Package Page; ComponentLink3URL: http://www.national.com/packaging/folders/m08a.html
footprint M08A_N (SOIC, 8-Leads, Body 4.9x3.9mm, Pitch 1.27mm, IPC Medium Density)
footprint M08A_L (SOIC, 8-Leads, Body 4.9x3.9mm, Pitch 1.27mm, IPC High Density)
footprint M08A_M (SOIC, 8-Leads, Body 4.9x3.9mm, Pitch 1.27mm, IPC Low Density)
pins: 1 GND (power), 2 VIN (power), 3 EN (in), 4 GND (power), 5 NC, 6 VREF (power), 7 GND (power), 8 GND (power)

## LM4140ACM-2.5
designator U?
Precision Micropower Low Dropout Voltage Reference; PartNumber: LM4140ACM-2.5; Manufacturer: National Semiconductor; CompType: Voltage Reference IC; PackageTopMarking: NSZXTT*4140A*CM2.5; Published: 4-Dec-2008; DatasheetVersion: Feb-2005; PackageVersion: revL, Sep-2006; PackageReference: M08A; Publisher: Altium Limited; PackageDescription: SOIC Narrow, 4.9 x 3.9 x 1.45mm, 8 Lead, 1.27mm Pitch; RoHS: O; PinCount: 8; DigiKeyPartNumber: LM4140ACM-2.5-ND; Code_JEDEC: MS-012-AA; Code_IPC: SOIC127P600-8; ComponentLink1Description: LM4140 Datasheet; ComponentLink1URL: http://www.national.com/ds/LM/LM4140.pdf; ComponentLink2Description: LM4140 Web Page; ComponentLink2URL: http://www.national.com/pf/LM/LM4140.html; ComponentLink3Description: M08A Package Page; ComponentLink3URL: http://www.national.com/packaging/folders/m08a.html
footprint M08A_N (SOIC, 8-Leads, Body 4.9x3.9mm, Pitch 1.27mm, IPC Medium Density)
footprint M08A_L (SOIC, 8-Leads, Body 4.9x3.9mm, Pitch 1.27mm, IPC High Density)
footprint M08A_M (SOIC, 8-Leads, Body 4.9x3.9mm, Pitch 1.27mm, IPC Low Density)
pins: 1 GND (power), 2 VIN (power), 3 EN (in), 4 GND (power), 5 NC, 6 VREF (power), 7 GND (power), 8 GND (power)

## LM4140ACM-4.1
designator U?
Precision Micropower Low Dropout Voltage Reference; PartNumber: LM4140ACM-4.1; Manufacturer: National Semiconductor; CompType: Voltage Reference IC; PackageTopMarking: NSZXTT*4140A*CM4.1; Published: 4-Dec-2008; DatasheetVersion: Feb-2005; PackageVersion: revL, Sep-2006; PackageReference: M08A; Publisher: Altium Limited; PackageDescription: SOIC Narrow, 4.9 x 3.9 x 1.45mm, 8 Lead, 1.27mm Pitch; RoHS: Y; PinCount: 8; DigiKeyPartNumber: LM4140ACM-4.1-ND; Code_JEDEC: MS-012-AA; Code_IPC: SOIC127P600-8; ComponentLink1Description: LM4140 Datasheet; ComponentLink1URL: http://www.national.com/ds/LM/LM4140.pdf; ComponentLink2Description: LM4140 Web Page; ComponentLink2URL: http://www.national.com/pf/LM/LM4140.html; ComponentLink3Description: M08A Package Page; ComponentLink3URL: http://www.national.com/packaging/folders/m08a.html
footprint M08A_N (SOIC, 8-Leads, Body 4.9x3.9mm, Pitch 1.27mm, IPC Medium Density)
footprint M08A_L (SOIC, 8-Leads, Body 4.9x3.9mm, Pitch 1.27mm, IPC High Density)
footprint M08A_M (SOIC, 8-Leads, Body 4.9x3.9mm, Pitch 1.27mm, IPC Low Density)
pins: 1 GND (power), 2 VIN (power), 3 EN (in), 4 GND (power), 5 NC, 6 VREF (power), 7 GND (power), 8 GND (power)

## LM4140BCM-1.0
designator U?
Precision Micropower Low Dropout Voltage Reference; PartNumber: LM4140BCM-1.0; Manufacturer: National Semiconductor; CompType: Voltage Reference IC; PackageTopMarking: NSZXTT*4140B*CM1.0; Published: 4-Dec-2008; DatasheetVersion: Feb-2005; PackageVersion: revL, Sep-2006; PackageReference: M08A; Publisher: Altium Limited; PackageDescription: SOIC Narrow, 4.9 x 3.9 x 1.45mm, 8 Lead, 1.27mm Pitch; RoHS: O; PinCount: 8; DigiKeyPartNumber: LM4140BCM-1.0-ND; Code_JEDEC: MS-012-AA; Code_IPC: SOIC127P600-8; ComponentLink1Description: LM4140 Datasheet; ComponentLink1URL: http://www.national.com/ds/LM/LM4140.pdf; ComponentLink2Description: LM4140 Web Page; ComponentLink2URL: http://www.national.com/pf/LM/LM4140.html; ComponentLink3Description: M08A Package Page; ComponentLink3URL: http://www.national.com/packaging/folders/m08a.html
footprint M08A_N (SOIC, 8-Leads, Body 4.9x3.9mm, Pitch 1.27mm, IPC Medium Density)
footprint M08A_L (SOIC, 8-Leads, Body 4.9x3.9mm, Pitch 1.27mm, IPC High Density)
footprint M08A_M (SOIC, 8-Leads, Body 4.9x3.9mm, Pitch 1.27mm, IPC Low Density)
pins: 1 GND (power), 2 VIN (power), 3 EN (in), 4 GND (power), 5 NC, 6 VREF (power), 7 GND (power), 8 GND (power)

## LM4140BCM-1.2
designator U?
Precision Micropower Low Dropout Voltage Reference; PartNumber: LM4140BCM-1.2; Manufacturer: National Semiconductor; CompType: Voltage Reference IC; PackageTopMarking: NSZXTT*4140B*CM1.2; Published: 4-Dec-2008; DatasheetVersion: Feb-2005; PackageVersion: revL, Sep-2006; PackageReference: M08A; Publisher: Altium Limited; PackageDescription: SOIC Narrow, 4.9 x 3.9 x 1.45mm, 8 Lead, 1.27mm Pitch; RoHS: Y; PinCount: 8; DigiKeyPartNumber: LM4140BCM-1.2-ND; Code_JEDEC: MS-012-AA; Code_IPC: SOIC127P600-8; ComponentLink1Description: LM4140 Datasheet; ComponentLink1URL: http://www.national.com/ds/LM/LM4140.pdf; ComponentLink2Description: LM4140 Web Page; ComponentLink2URL: http://www.national.com/pf/LM/LM4140.html; ComponentLink3Description: M08A Package Page; ComponentLink3URL: http://www.national.com/packaging/folders/m08a.html
footprint M08A_N (SOIC, 8-Leads, Body 4.9x3.9mm, Pitch 1.27mm, IPC Medium Density)
footprint M08A_L (SOIC, 8-Leads, Body 4.9x3.9mm, Pitch 1.27mm, IPC High Density)
footprint M08A_M (SOIC, 8-Leads, Body 4.9x3.9mm, Pitch 1.27mm, IPC Low Density)
pins: 1 GND (power), 2 VIN (power), 3 EN (in), 4 GND (power), 5 NC, 6 VREF (power), 7 GND (power), 8 GND (power)

## LM4140BCM-2.0
designator U?
Precision Micropower Low Dropout Voltage Reference; PartNumber: LM4140BCM-2.0; Manufacturer: National Semiconductor; CompType: Voltage Reference IC; PackageTopMarking: NSZXTT*4140B*CM2.0; Published: 4-Dec-2008; DatasheetVersion: Feb-2005; PackageVersion: revL, Sep-2006; PackageReference: M08A; Publisher: Altium Limited; PackageDescription: SOIC Narrow, 4.9 x 3.9 x 1.45mm, 8 Lead, 1.27mm Pitch; RoHS: Y; PinCount: 8; DigiKeyPartNumber: LM4140BCM-2.0-ND; Code_JEDEC: MS-012-AA; Code_IPC: SOIC127P600-8; ComponentLink1Description: LM4140 Datasheet; ComponentLink1URL: http://www.national.com/ds/LM/LM4140.pdf; ComponentLink2Description: LM4140 Web Page; ComponentLink2URL: http://www.national.com/pf/LM/LM4140.html; ComponentLink3Description: M08A Package Page; ComponentLink3URL: http://www.national.com/packaging/folders/m08a.html
footprint M08A_N (SOIC, 8-Leads, Body 4.9x3.9mm, Pitch 1.27mm, IPC Medium Density)
footprint M08A_L (SOIC, 8-Leads, Body 4.9x3.9mm, Pitch 1.27mm, IPC High Density)
footprint M08A_M (SOIC, 8-Leads, Body 4.9x3.9mm, Pitch 1.27mm, IPC Low Density)
pins: 1 GND (power), 2 VIN (power), 3 EN (in), 4 GND (power), 5 NC, 6 VREF (power), 7 GND (power), 8 GND (power)

## LM4140BCM-2.5
designator U?
Precision Micropower Low Dropout Voltage Reference; PartNumber: LM4140BCM-2.5; Manufacturer: National Semiconductor; CompType: Voltage Reference IC; PackageTopMarking: NSZXTT*4140B*CM2.5; Published: 4-Dec-2008; DatasheetVersion: Feb-2005; PackageVersion: revL, Sep-2006; PackageReference: M08A; Publisher: Altium Limited; PackageDescription: SOIC Narrow, 4.9 x 3.9 x 1.45mm, 8 Lead, 1.27mm Pitch; RoHS: O; PinCount: 8; DigiKeyPartNumber: LM4140BCM-2.5-ND; Code_JEDEC: MS-012-AA; Code_IPC: SOIC127P600-8; ComponentLink1Description: LM4140 Datasheet; ComponentLink1URL: http://www.national.com/ds/LM/LM4140.pdf; ComponentLink2Description: LM4140 Web Page; ComponentLink2URL: http://www.national.com/pf/LM/LM4140.html; ComponentLink3Description: M08A Package Page; ComponentLink3URL: http://www.national.com/packaging/folders/m08a.html
footprint M08A_N (SOIC, 8-Leads, Body 4.9x3.9mm, Pitch 1.27mm, IPC Medium Density)
footprint M08A_L (SOIC, 8-Leads, Body 4.9x3.9mm, Pitch 1.27mm, IPC High Density)
footprint M08A_M (SOIC, 8-Leads, Body 4.9x3.9mm, Pitch 1.27mm, IPC Low Density)
pins: 1 GND (power), 2 VIN (power), 3 EN (in), 4 GND (power), 5 NC, 6 VREF (power), 7 GND (power), 8 GND (power)

## LM4140BCM-4.1
designator U?
Precision Micropower Low Dropout Voltage Reference; PartNumber: LM4140BCM-4.1; Manufacturer: National Semiconductor; CompType: Voltage Reference IC; PackageTopMarking: NSZXTT*4140B*CM4.1; Published: 4-Dec-2008; DatasheetVersion: Feb-2005; PackageVersion: revL, Sep-2006; PackageReference: M08A; Publisher: Altium Limited; PackageDescription: SOIC Narrow, 4.9 x 3.9 x 1.45mm, 8 Lead, 1.27mm Pitch; RoHS: Y; PinCount: 8; DigiKeyPartNumber: LM4140BCM-4.1-ND; Code_JEDEC: MS-012-AA; Code_IPC: SOIC127P600-8; ComponentLink1Description: LM4140 Datasheet; ComponentLink1URL: http://www.national.com/ds/LM/LM4140.pdf; ComponentLink2Description: LM4140 Web Page; ComponentLink2URL: http://www.national.com/pf/LM/LM4140.html; ComponentLink3Description: M08A Package Page; ComponentLink3URL: http://www.national.com/packaging/folders/m08a.html
footprint M08A_N (SOIC, 8-Leads, Body 4.9x3.9mm, Pitch 1.27mm, IPC Medium Density)
footprint M08A_L (SOIC, 8-Leads, Body 4.9x3.9mm, Pitch 1.27mm, IPC High Density)
footprint M08A_M (SOIC, 8-Leads, Body 4.9x3.9mm, Pitch 1.27mm, IPC Low Density)
pins: 1 GND (power), 2 VIN (power), 3 EN (in), 4 GND (power), 5 NC, 6 VREF (power), 7 GND (power), 8 GND (power)

## LM4140CCM-1.0
designator U?
Precision Micropower Low Dropout Voltage Reference; PartNumber: LM4140CCM-1.0; Manufacturer: National Semiconductor; CompType: Voltage Reference IC; PackageTopMarking: NSZXTT*4140C*CM1.0; Published: 4-Dec-2008; DatasheetVersion: Feb-2005; PackageVersion: revL, Sep-2006; PackageReference: M08A; Publisher: Altium Limited; PackageDescription: SOIC Narrow, 4.9 x 3.9 x 1.45mm, 8 Lead, 1.27mm Pitch; RoHS: Y; PinCount: 8; DigiKeyPartNumber: LM4140CCM-1.0-ND; Code_JEDEC: MS-012-AA; Code_IPC: SOIC127P600-8; ComponentLink1Description: LM4140 Datasheet; ComponentLink1URL: http://www.national.com/ds/LM/LM4140.pdf; ComponentLink2Description: LM4140 Web Page; ComponentLink2URL: http://www.national.com/pf/LM/LM4140.html; ComponentLink3Description: M08A Package Page; ComponentLink3URL: http://www.national.com/packaging/folders/m08a.html
footprint M08A_N (SOIC, 8-Leads, Body 4.9x3.9mm, Pitch 1.27mm, IPC Medium Density)
footprint M08A_L (SOIC, 8-Leads, Body 4.9x3.9mm, Pitch 1.27mm, IPC High Density)
footprint M08A_M (SOIC, 8-Leads, Body 4.9x3.9mm, Pitch 1.27mm, IPC Low Density)
pins: 1 GND (power), 2 VIN (power), 3 EN (in), 4 GND (power), 5 NC, 6 VREF (power), 7 GND (power), 8 GND (power)

## LM4140CCM-1.2
designator U?
Precision Micropower Low Dropout Voltage Reference; PartNumber: LM4140CCM-1.2; Manufacturer: National Semiconductor; CompType: Voltage Reference IC; PackageTopMarking: NSZXTT*4140C*CM1.2; Published: 4-Dec-2008; DatasheetVersion: Feb-2005; PackageVersion: revL, Sep-2006; PackageReference: M08A; Publisher: Altium Limited; PackageDescription: SOIC Narrow, 4.9 x 3.9 x 1.45mm, 8 Lead, 1.27mm Pitch; RoHS: Y; PinCount: 8; DigiKeyPartNumber: LM4140CCM-1.2-ND; Code_JEDEC: MS-012-AA; Code_IPC: SOIC127P600-8; ComponentLink1Description: LM4140 Datasheet; ComponentLink1URL: http://www.national.com/ds/LM/LM4140.pdf; ComponentLink2Description: LM4140 Web Page; ComponentLink2URL: http://www.national.com/pf/LM/LM4140.html; ComponentLink3Description: M08A Package Page; ComponentLink3URL: http://www.national.com/packaging/folders/m08a.html
footprint M08A_N (SOIC, 8-Leads, Body 4.9x3.9mm, Pitch 1.27mm, IPC Medium Density)
footprint M08A_L (SOIC, 8-Leads, Body 4.9x3.9mm, Pitch 1.27mm, IPC High Density)
footprint M08A_M (SOIC, 8-Leads, Body 4.9x3.9mm, Pitch 1.27mm, IPC Low Density)
pins: 1 GND (power), 2 VIN (power), 3 EN (in), 4 GND (power), 5 NC, 6 VREF (power), 7 GND (power), 8 GND (power)

## LM4140CCM-2.0
designator U?
Precision Micropower Low Dropout Voltage Reference; PartNumber: LM4140CCM-2.0; Manufacturer: National Semiconductor; CompType: Voltage Reference IC; PackageTopMarking: NSZXTT*4140C*CM2.0; Published: 4-Dec-2008; DatasheetVersion: Feb-2005; PackageVersion: revL, Sep-2006; PackageReference: M08A; Publisher: Altium Limited; PackageDescription: SOIC Narrow, 4.9 x 3.9 x 1.45mm, 8 Lead, 1.27mm Pitch; RoHS: Y; PinCount: 8; DigiKeyPartNumber: LM4140CCM-2.0-ND; Code_JEDEC: MS-012-AA; Code_IPC: SOIC127P600-8; ComponentLink1Description: LM4140 Datasheet; ComponentLink1URL: http://www.national.com/ds/LM/LM4140.pdf; ComponentLink2Description: LM4140 Web Page; ComponentLink2URL: http://www.national.com/pf/LM/LM4140.html; ComponentLink3Description: M08A Package Page; ComponentLink3URL: http://www.national.com/packaging/folders/m08a.html
footprint M08A_N (SOIC, 8-Leads, Body 4.9x3.9mm, Pitch 1.27mm, IPC Medium Density)
footprint M08A_L (SOIC, 8-Leads, Body 4.9x3.9mm, Pitch 1.27mm, IPC High Density)
footprint M08A_M (SOIC, 8-Leads, Body 4.9x3.9mm, Pitch 1.27mm, IPC Low Density)
pins: 1 GND (power), 2 VIN (power), 3 EN (in), 4 GND (power), 5 NC, 6 VREF (power), 7 GND (power), 8 GND (power)

## LM4140CCM-2.5
designator U?
Precision Micropower Low Dropout Voltage Reference; PartNumber: LM4140CCM-2.5; Manufacturer: National Semiconductor; CompType: Voltage Reference IC; PackageTopMarking: NSZXTT*4140C*CM2.5; Published: 4-Dec-2008; DatasheetVersion: Feb-2005; PackageVersion: revL, Sep-2006; PackageReference: M08A; Publisher: Altium Limited; PackageDescription: SOIC Narrow, 4.9 x 3.9 x 1.45mm, 8 Lead, 1.27mm Pitch; RoHS: O; PinCount: 8; DigiKeyPartNumber: LM4140CCM-2.5-ND; Code_JEDEC: MS-012-AA; Code_IPC: SOIC127P600-8; ComponentLink1Description: LM4140 Datasheet; ComponentLink1URL: http://www.national.com/ds/LM/LM4140.pdf; ComponentLink2Description: LM4140 Web Page; ComponentLink2URL: http://www.national.com/pf/LM/LM4140.html; ComponentLink3Description: M08A Package Page; ComponentLink3URL: http://www.national.com/packaging/folders/m08a.html
footprint M08A_N (SOIC, 8-Leads, Body 4.9x3.9mm, Pitch 1.27mm, IPC Medium Density)
footprint M08A_L (SOIC, 8-Leads, Body 4.9x3.9mm, Pitch 1.27mm, IPC High Density)
footprint M08A_M (SOIC, 8-Leads, Body 4.9x3.9mm, Pitch 1.27mm, IPC Low Density)
pins: 1 GND (power), 2 VIN (power), 3 EN (in), 4 GND (power), 5 NC, 6 VREF (power), 7 GND (power), 8 GND (power)

## LM4140CCM-4.1
designator U?
Precision Micropower Low Dropout Voltage Reference; PartNumber: LM4140CCM-4.1; Manufacturer: National Semiconductor; CompType: Voltage Reference IC; PackageTopMarking: NSZXTT*4140C*CM4.1; Published: 4-Dec-2008; DatasheetVersion: Feb-2005; PackageVersion: revL, Sep-2006; PackageReference: M08A; Publisher: Altium Limited; PackageDescription: SOIC Narrow, 4.9 x 3.9 x 1.45mm, 8 Lead, 1.27mm Pitch; RoHS: O; PinCount: 8; DigiKeyPartNumber: LM4140CCM-4.1-ND; Code_JEDEC: MS-012-AA; Code_IPC: SOIC127P600-8; ComponentLink1Description: LM4140 Datasheet; ComponentLink1URL: http://www.national.com/ds/LM/LM4140.pdf; ComponentLink2Description: LM4140 Web Page; ComponentLink2URL: http://www.national.com/pf/LM/LM4140.html; ComponentLink3Description: M08A Package Page; ComponentLink3URL: http://www.national.com/packaging/folders/m08a.html
footprint M08A_N (SOIC, 8-Leads, Body 4.9x3.9mm, Pitch 1.27mm, IPC Medium Density)
footprint M08A_L (SOIC, 8-Leads, Body 4.9x3.9mm, Pitch 1.27mm, IPC High Density)
footprint M08A_M (SOIC, 8-Leads, Body 4.9x3.9mm, Pitch 1.27mm, IPC Low Density)
pins: 1 GND (power), 2 VIN (power), 3 EN (in), 4 GND (power), 5 NC, 6 VREF (power), 7 GND (power), 8 GND (power)

## LM4431M3-2.5
designator U?
Micropower Shunt Voltage Reference; PartNumber: LM4431M3-2.5; Manufacturer: National Semiconductor; CompType: Voltage Reference IC; PackageTopMarking: S2E*XTT; Published: 4-Dec-2008; DatasheetVersion: Jul-1998; PackageVersion: revB, Mar-2003; PackageReference: MF03A; Publisher: Altium Limited; PackageDescription: Molded SOT-23, .115 x .051 x .037in Body, 3 Lead, .075 in Pitch; RoHS: O; PinCount: 3; DigiKeyPartNumber: LM4431M3-2.5CT-ND; ComponentLink1Description: LM4431 Datasheet; ComponentLink1URL: http://www.national.com/ds/LM/LM4431.pdf; ComponentLink2Description: LM4431 Web Page; ComponentLink2URL: http://www.national.com/pf/LM/LM4431.html; ComponentLink3Description: MF03A Package Page; ComponentLink3URL: http://www.national.com/packaging/folders/mf03a.html
footprint MF03A_N (SOT23, 3-Leads, Body 2.9x1.3mm, Pitch 0.95mm, Lead Span 2.4mm, IPC Medium Density)
footprint MF03A_L (SOT23, 3-Leads, Body 2.9x1.3mm, Pitch 0.95mm, Lead Span 2.4mm, IPC High Density)
footprint MF03A_M (SOT23, 3-Leads, Body 2.9x1.3mm, Pitch 0.95mm, Lead Span 2.4mm, IPC Low Density)
pins: 1 +V, 2 -V, 3 NC